# EAGLE library part IDC-6 (library _mtvl.connectors)
IDC-6
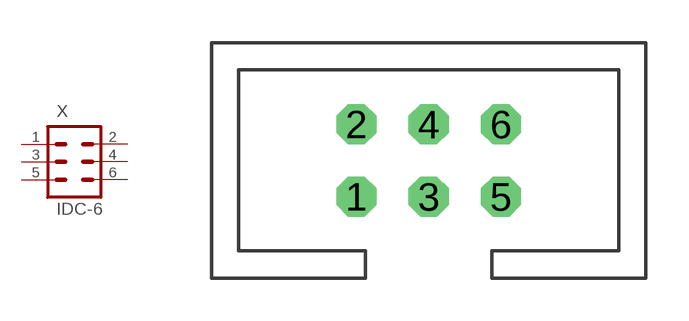
[diagram p33: symbol with the pads of IDC-6P; footprint IDC-6P]

Designator prefix X

## IDC-6P  [IDC-6P]
1  1  pas
2  2  pas
3  3  pas
4  4  pas
5  5  pas
6  6  pas

## Footprint IDC-6P (pad centres in mm)
IDC-6P
drill 0.9 octagon: 1 -2.54,-1.27; 2 -2.54,1.27; 3 0,-1.27; 4 0,1.27; 5 2.54,-1.27; 6 2.54,1.27